# Altium footprint library Wurth_Elektronik_Passive_rev16a.PCBLIB: 810 footprints (part 20 of 51)
Each footprint in its own frame and in the unit in brackets; x right, y up, seen from the top. Pads: shape width x height; smd on the part's side, far side on the other; paste and mask are expansions set on the pad; w line width, h text height; cw(c..) or ccw(c..) is an arc to the next point about the centre after c.
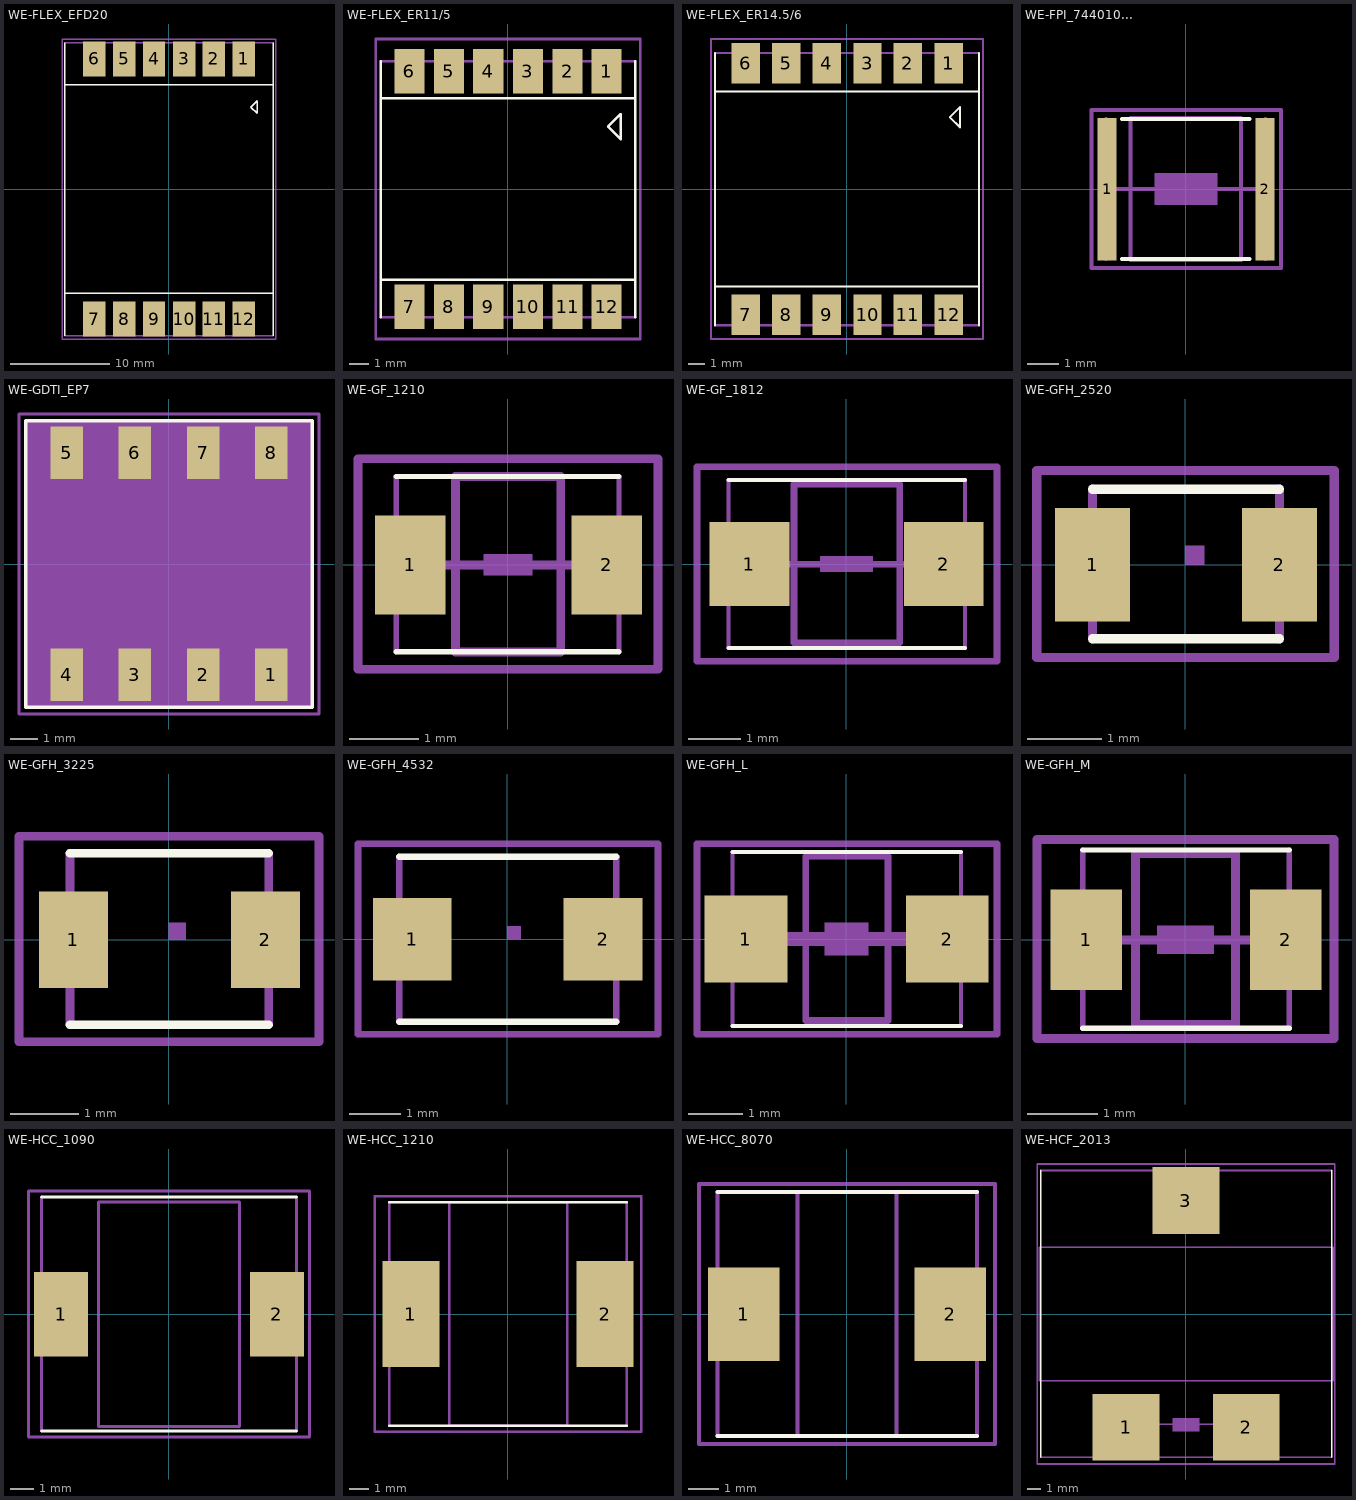
[diagram p19: the footprints below, top view; thin cyan lines are the x and y axes]

## WE-FLEX_EFD20 [mil]
pads (12):
  rect 89x138 smd: 1(296,516) 2(178,516) 3(60,516) 4(-59.06,516) 5(-177.17,516) 6(-295.28,516) 7(-295.28,-515.75) 8(-177.17,-515.75) 9(-59.06,-515.75) 10(60,-515.75) 11(178,-515.75) 12(296,-515.75)
Top Overlay:
  lines w5: -413.39,-580.71 -413.39,-413.39 ; -413.39,581 -413.39,414 ; 414,-580.71 414,-413.39 ; 414,581 414,414 ; -413.39,-413.39 -413.39,414 ; -413.39,-413.39 414,-413.39 ; -413.39,414 414,414 ; 414,-413.39 414,414 ; 325,325 350,350 350,300 325,325
Mechanical 2:
  text ">NAME" at -400,650 h77.5
Mechanical 4:
  text ">VALUE" at -400,-675 h77.5
Mechanical 16:
  lines w5: -413.39,-580.71 414,-580.71 ; -413.39,581 414,581
Mechanical 27:
  lines w5: -423.23,-594.49 -423.23,595 424,595 424,-594.49 -423.23,-594.49

## WE-FLEX_ER11/5 [mil]
pads (12):
  rect 60x89 smd: 1(197,236) 2(119,236) 3(40,236) 4(-39.37,236) 5(-118.11,236) 6(-196.85,236) 7(-196.85,-235.24) 8(-118.11,-235.24) 9(-39.37,-235.24) 10(40,-235.24) 11(119,-235.24) 12(197,-235.24)
Top Overlay:
  lines w5: -253.94,-255.91 -253.94,256 ; -250,-181.1 250,-181.1 ; -250,182 250,182 ; 254,-255.91 254,256 ; 200,125 225,100 225,150 200,125
Mechanical 2:
  text ">NAME" at -250,325 h77.5
Mechanical 4:
  text ">VALUE" at -275,-375 h77.5
Mechanical 16:
  lines w5: -253.94,-255.91 254,-255.91 ; -253.94,256 254,256
Mechanical 27:
  lines w5: -263.78,-299.21 -263.78,300 264,300 264,-299.21 -263.78,-299.21

## WE-FLEX_ER14.5/6 [mil]
pads (12):
  rect 69x99 smd: 1(247,306) 2(148,306) 3(50,306) 4(-49.21,306) 5(-147.64,306) 6(-246.06,306) 7(-246.06,-305.12) 8(-147.64,-305.12) 9(-49.21,-305.12) 10(50,-305.12) 11(148,-305.12) 12(247,-305.12)
Top Overlay:
  lines w5: -320.87,-330.71 -320.87,-236.22 ; -320.87,331 -320.87,237 ; 321,-330.71 321,-236.22 ; 321,331 321,237 ; -320.87,-236.22 -320.87,237 ; -320.87,-236.22 321,-236.22 ; -320.87,237 321,237 ; 321,-236.22 321,237 ; 250,175 275,150 275,200 250,175
Mechanical 2:
  text ">NAME" at -350,425 h77.5
Mechanical 4:
  text ">VALUE" at -325,-450 h77.5
Mechanical 16:
  lines w5: -320.87,-330.71 321,-330.71 ; -320.87,331 321,331
Mechanical 27:
  lines w5: -330.71,-364.17 -330.71,365 331,365 331,-364.17 -330.71,-364.17

## WE-FPI_744010... [mil]
pads (2):
  rect 24x178 smd: 1(-98.43,0) 2(99,0)
Top Overlay:
  lines w5: -80,-87.5 80,-87.5 ; -80,88 80,88
Mechanical 2:
  text ">NAME" at -125,-175 h77.5
Mechanical 4:
  text ">VALUE" at -125,125 h77.5
Mechanical 10:
  lines w5: -68.9,-88.58 -68.9,89 69,89 69,-88.58 -68.9,-88.58
Mechanical 16:
  rectangle: -39.37,-19.68 40,20
  lines w5: -100,-87.5 -100,88 ; -98.43,0 99,0 ; 100,-87.5 100,88
Mechanical 27:
  lines w5: -118.11,-98.43 -118.11,99 119,99 119,-98.43 -118.11,-98.43

## WE-GDTI_EP7 [mil]
pads (8):
  rect 47x76 smd: 1(148,-160.04) 2(50,-160.04) 3(-49.21,-160.04) 4(-147.64,-160.04) 5(-147.64,161) 6(-49.21,161) 7(50,161) 8(148,161)
Top Overlay:
  lines w5: -206.69,-206.69 -206.69,207 207,207 207,-206.69 -206.69,-206.69
Mechanical 2:
  text ">NAME" at -200,250 h77.5
Mechanical 4:
  text ">VALUE" at -200,-300 h77.5
Mechanical 10:
  region: 207,207 -206.69,207 -206.69,-206.69 207,-206.69
Mechanical 27:
  lines w5: -216.54,-216.54 -216.54,217 217,217 217,-216.54 -216.54,-216.54

## WE-GF_1210 [mil]
pads (2):
  rect 40x56 smd: 1(-55.12,0) 2(56,0)
Top Overlay:
  lines w3: -62.99,-49.21 63,-49.21 ; -62.99,50 63,50
Mechanical 2:
  text ">NAME" at -62.5,-87.5 h37.2
Mechanical 4:
  text ">VALUE" at -62.5,63 h37.2
Mechanical 10:
  lines w5: -29.53,-49.21 -29.53,50 30,50 30,-49.21 -29.53,-49.21
Mechanical 16:
  rectangle: -13.78,-5.91 14,6
  lines w3: -62.99,-49.21 -62.99,50 ; 63,-49.21 63,50
  lines w5: -62.99,0 63,0
Mechanical 27:
  lines w5: -84.65,-59.06 -84.65,60 85,60 85,-59.06 -84.65,-59.06

## WE-GF_1812 [mil]
pads (2):
  rect 60x63 smd: 1(-72.83,0) 2(73,0)
Top Overlay:
  lines w3: -88.58,-62.99 89,-62.99 ; -88.58,63 89,63
Mechanical 2:
  text ">NAME" at -62.5,-112.5 h37.2
Mechanical 4:
  text ">VALUE" at -62.5,88 h37.2
Mechanical 10:
  lines w5: -39.37,-59.06 -39.37,60 40,60 40,-59.06 -39.37,-59.06
Mechanical 16:
  rectangle: -19.68,-5.91 20,6
  lines w3: -88.58,-62.99 -88.58,63 ; 89,-62.99 89,63
  lines w5: -88.58,0 89,0
Mechanical 27:
  lines w5: -112.2,-72.83 -112.2,73 113,73 113,-72.83 -112.2,-72.83

## WE-GFH_2520 [mil]
pads (2):
  rect 40x60 smd: 1(-49.21,0) 2(50,0)
Top Overlay:
  lines w5: -49.21,-39.37 50,-39.37 ; -49.21,40 50,40
Mechanical 2:
  text ">NAME" at -74.8,60 h15.5
Mechanical 4:
  text ">VALUE" at -74.8,-70.87 h15.5
Mechanical 10:
  region: 0,0 10,0 10,10 0,10
Mechanical 16:
  lines w5: -49.21,-39.37 -49.21,40 ; 50,-39.37 50,40
Mechanical 27:
  lines w5: -78.74,-49.21 -78.74,50 79,50 79,-49.21 -78.74,-49.21

## WE-GFH_3225 [mil]
pads (2):
  rect 40x56 smd: 1(-55.12,0) 2(56,0)
Top Overlay:
  lines w5: -57.09,-49.21 58,-49.21 ; -57.09,50 58,50
Mechanical 2:
  text ">NAME" at -39.37,71 h24.8
Mechanical 4:
  text ">VALUE" at -39.37,-82.68 h24.8
Mechanical 10:
  region: 0,0 10,0 10,10 0,10
Mechanical 16:
  lines w5: -57.09,-49.21 -57.09,50 ; 58,-49.21 58,50
Mechanical 27:
  lines w5: -86.61,-59.06 -86.61,60 87,60 87,-59.06 -86.61,-59.06

## WE-GFH_4532 [mil]
pads (2):
  rect 60x63 smd: 1(-72.83,0) 2(73,0)
Top Overlay:
  lines w5: -82.68,-62.99 83,-62.99 ; -82.68,63 83,63
Mechanical 2:
  text ">NAME" at -31.5,90 h24.8
Mechanical 4:
  text ">VALUE" at -27.56,-97.24 h24.8
Mechanical 10:
  region: 0,0 10,0 10,10 0,10
Mechanical 16:
  lines w5: -82.68,-62.99 -82.68,63 ; 83,-62.99 83,63
Mechanical 27:
  lines w5: -114.17,-72.83 115,-72.83 115,73 -114.17,73 -114.17,-72.83

## WE-GFH_L [mil]
pads (2):
  rect 60x63 smd: 1(-72.83,0) 2(73,0)
Top Overlay:
  lines w3: -82.68,-62.99 83,-62.99 ; -82.68,63 83,63
Mechanical 2:
  text ">NAME" at -75,-100 h37.2
Mechanical 4:
  text ">VALUE" at -75,75 h37.2
Mechanical 10:
  lines w5: -29.53,-59.06 -29.53,60 30,60 30,-59.06 -29.53,-59.06
Mechanical 16:
  rectangle: -15.75,-11.81 16,12
  lines w3: -82.68,-62.99 -82.68,-23.62 ; -82.68,63 -82.68,24 ; 83,-62.99 83,-23.62 ; 83,63 83,24 ; -82.68,-23.62 -82.68,24 ; -82.68,-23.62 -88.58,-23.62 -88.58,24 -82.68,24 ; 83,-23.62 83,24 ; 83,-23.62 89,-23.62 89,24 83,24
  lines w10: -72.83,0 73,0
Mechanical 27:
  lines w5: -108.27,-68.9 -108.27,69 109,69 109,-68.9 -108.27,-68.9

## WE-GFH_M [mil]
pads (2):
  rect 40x56 smd: 1(-55.12,0) 2(56,0)
Top Overlay:
  lines w3: -57.09,-49.21 58,-49.21 ; -57.09,50 58,50
Mechanical 2:
  text ">NAME" at -75,-100 h37.2
Mechanical 4:
  text ">VALUE" at -75,75 h37.2
Mechanical 10:
  lines w5: -27.56,-47.24 -27.56,48 28,48 28,-47.24 -27.56,-47.24
Mechanical 16:
  rectangle: -15.75,-7.87 16,8
  lines w3: -57.09,-49.21 -57.09,-19.68 ; -57.09,50 -57.09,20 ; 58,-49.21 58,-19.68 ; 58,50 58,20 ; -57.09,-19.68 -57.09,20 ; -57.09,-19.68 -62.99,-19.68 -62.99,20 -57.09,20 ; 58,-19.68 58,20 ; 58,-19.68 63,-19.68 63,20 58,20
  lines w5: -55.12,0 56,0
Mechanical 27:
  lines w5: -82.68,-55.12 -82.68,56 83,56 83,-55.12 -82.68,-55.12

## WE-HCC_1090 [mil]
pads (2):
  rect 91x142 smd: 1(-181.1,0) 2(182,0)
Top Overlay:
  lines w5: -214.57,-196.85 215,-196.85 ; -214.57,197 215,197
Mechanical 2:
  text ">NAME" at -234.65,225 h77.5
Mechanical 4:
  text ">VALUE" at -234.65,-274.56 h77.5
Mechanical 10:
  lines w5: -118.11,-188.98 -118.11,189 119,189 119,-188.98 -118.11,-188.98
Mechanical 16:
  lines w5: -214.57,-196.85 -214.57,197 ; 215,-196.85 215,197
Mechanical 27:
  lines w5: -236.22,-206.69 -236.22,207 237,207 237,-206.69 -236.22,-206.69

## WE-HCC_1210 [mil]
pads (2):
  rect 115x213 smd: 1(-194.88,0) 2(195,0)
Top Overlay:
  lines w5: -238.19,-224.41 239,-224.41 ; -238.19,225 239,225
Mechanical 2:
  text ">NAME" at -222.44,268 h77.5
Mechanical 4:
  text ">VALUE" at -222.44,-316.93 h77.5
Mechanical 10:
  lines w5: -118.11,-224.41 -118.11,225 119,225 119,-224.41 -118.11,-224.41
Mechanical 16:
  lines w5: -238.19,-224.41 -238.19,225 ; 239,-224.41 239,225
Mechanical 27:
  lines w5: -267.72,-236.22 -267.72,237 268,237 268,-236.22 -267.72,-236.22

## WE-HCC_8070 [mil]
pads (2):
  rect 91x119 smd: 1(-131.89,0) 2(132,0)
Top Overlay:
  lines w5: -165.35,-155.51 166,-155.51 ; -165.35,156 166,156
Mechanical 2:
  text ">NAME" at -165.29,180 h77.5
Mechanical 4:
  text ">VALUE" at -165.29,-234.24 h77.5
Mechanical 10:
  lines w5: -62.99,-155.51 -62.99,156 63,156 63,-155.51 -62.99,-155.51
Mechanical 16:
  lines w5: -165.35,-155.51 -165.35,156 ; 166,-155.51 166,156
Mechanical 27:
  lines w5: -188.98,-165.35 -188.98,166 189,166 189,-165.35 -188.98,-165.35

## WE-HCF_2013 [mil]
pads (3):
  rect 197x197 smd: 1(-177.17,-334.65) 2(178,-334.65) 3(0,335)
Top Overlay:
  lines w5: -429.13,-423.23 -429.13,424 ; 430,-423.23 430,424
Mechanical 2:
  text ">NAME" at -386.22,502 h77.5
Mechanical 4:
  text ">VALUE" at -386.22,-551.77 h77.5
Mechanical 10:
  lines w5: -433.07,-196.85 434,-196.85 434,197 -433.07,197 -433.07,-196.85
Mechanical 16:
  region: 39.53,-347.01 39.53,-307.32 -39.22,-307.32 -39.22,-347.01
  lines w5: -429.13,-423.23 430,-423.23 ; -429.13,424 430,424 ; -147.64,-325.2 148,-325.2
Mechanical 27:
  lines w5: -438.98,-442.91 439,-442.91 439,443 -438.98,443 -438.98,-442.91